# Altium schematic symbol library On_Semiconductor_BD809.SchLib: 1 symbol
Pins are listed as number, name and electrical type; pins without a type are passive.

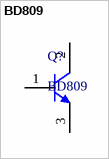
[diagram p0: symbol BD809]

## BD809
designator Q?
Plastic High Power Silicon Transistor, 3-Pin TO-220, Tube; Manufacturer: On Semiconductor; Polarity: NPN; Note1: 0; fT Min (MHz): 1.5; IC Continuous (A): 10; ComponentLink1Description: Manufacturer URL; ComponentLink2Description: Datasheet; DatasheetVersion: Rev. 7; Mounting Technology: Through Hole; ComponentLink3URL: http://www.onsemi.com/pub_link/Collateral/221A-09.PDF; ComponentLink3Description: Package Specification; ComponentLink1URL: http://www.onsemi.com/; Packing: Tube; PackageVersion: Rev. AG, 09/2011; PartNumber: BD809; PackageDescription: 3-Pin Flange Mount, Vertical Straight Lead, Body 9.97 x 4.445 mm, Pitch 2.54 mm; ComponentLink2URL: http://www.onsemi.com/pub_link/Collateral/BD809-D.PDF; RoHS: FALSE; PackageReference: TO-220-3-221A-09
footprint ONSC-TO-220-3-221A-09
pins: 1 B, 2 C, 3 E